# EAGLE library part SC_TERM_5MM_1X6 (library trafshlib)
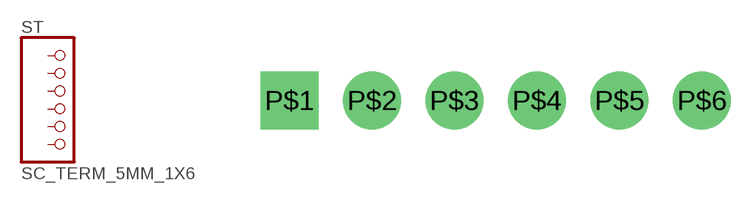
[diagram p3: symbol with the pads of SC_TERM_5MM_1X6; footprint SC_TERM_5MM_1X6]

Designator prefix ST

## SC_TERM_5MM_1X6  [SC_TERM_5MM_1X6]
P$1  1  pas
P$2  2  pas
P$3  3  pas
P$4  4  pas
P$5  5  pas
P$6  6  pas

## Footprint SC_TERM_5MM_1X6 (pad centres in mm)
drill 1.5 pad 3.5 square: P$1 0,0
drill 1.5 pad 3.5: P$2 5,0; P$3 10,0; P$4 15,0; P$5 20,0; P$6 25,0